# Altium footprint library PcbLib1.PcbLib: 34 footprints (part 1 of 3)
Each footprint in its own frame and in the unit in brackets; x right, y up, seen from the top. Pads: shape width x height; smd on the part's side, far side on the other; paste and mask are expansions set on the pad; w line width, h text height; cw(c..) or ccw(c..) is an arc to the next point about the centre after c.
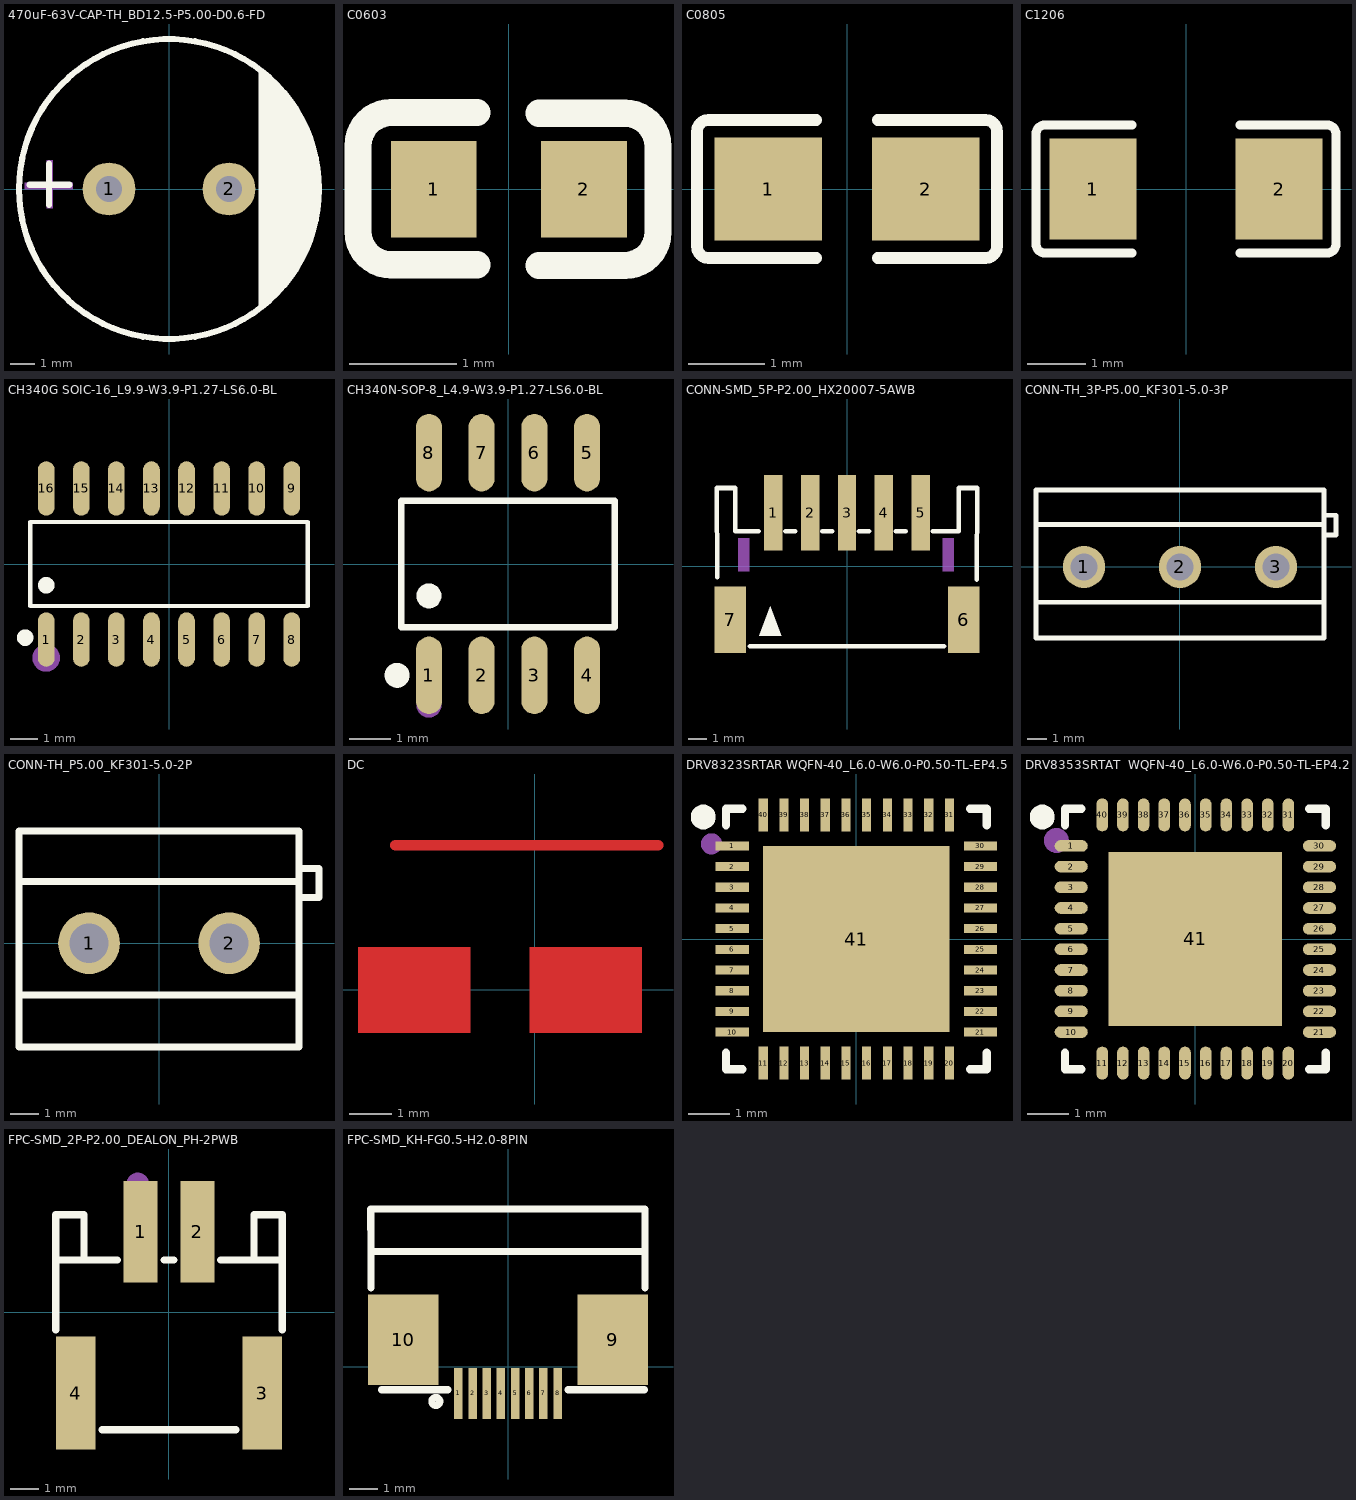
[diagram p0: the footprints below, top view; thin cyan lines are the x and y axes]

## 470uF-63V-CAP-TH_BD12.5-P5.00-D0.6-FD [mm]
pads (2):
  round 2.2 hole 1.1: 1(-2.5,0) 2(2.5,0)
Top Overlay:
  circle w0.254: c0,0 r6.25
  region: 3.75,5 3.75,-5 4.482,-4.268 4.692,-4.058 5.068,-3.6 5.397,-3.107 5.677,-2.584 5.904,-2.036 6.076,-1.468 6.192,-0.887 6.25,-0.297 6.25,0 6.25,0.297 6.192,0.887 6.076,1.468 5.904,2.036 5.677,2.584 5.397,3.107 5.068,3.6 4.692,4.058 4.482,4.268
  lines w0.254: -5.817,0.178 -4.14,0.178 ; -5.004,-0.66 -5.004,1.067
Mechanical 15:
  region: -6,0.25 -4,0.25 -4,0 -6,0
  region: -5.092,-0.811 -5.092,1.189 -4.842,1.189 -4.842,-0.811

## AMS1117-SOT-89_L4.5-W2.5-P1.50-LS4.2-BR [mm]

## C0603 [mm]
pads (2):
  rect 0.8x0.9 smd: 1(-0.7,0) 2(0.7,0)
Top Overlay:
  lines w0.254: -0.296,-0.704 -1.096,-0.704 cw(c-1.096,-0.394) -1.406,-0.394 -1.405,0.406 cw(c-1.096,0.406) -1.096,0.715 -0.296,0.715 ; 0.28,-0.71 1.08,-0.71 ccw(c1.08,-0.4) 1.39,-0.4 1.39,0.4 ccw(c1.08,0.4) 1.08,0.71 0.28,0.71

## C0805 [mm]
pads (2):
  rect 1.41x1.35 smd: 1(-1.03,0) 2(1.03,0)
Top Overlay:
  lines w0.152: -0.401,-0.904 -1.811,-0.904 cw(c-1.811,-0.751) -1.964,-0.751 -1.964,0.751 cw(c-1.811,0.751) -1.811,0.904 -0.401,0.904 ; 0.401,-0.904 1.811,-0.904 ccw(c1.811,-0.751) 1.964,-0.751 1.964,0.751 ccw(c1.811,0.751) 1.811,0.904 0.401,0.904
Top Paste:
  region: 0.475,-0.62 0.475,-0.2 0.92,-0.2 0.92,0.25 0.48,0.25 0.475,0.66 0.525,0.71 1.675,0.71 1.725,0.66 1.725,-0.62 1.675,-0.67 0.525,-0.67
  region: -1.675,-0.62 -1.675,0.66 -1.625,0.71 -0.475,0.71 -0.425,0.66 -0.42,0.25 -0.87,0.25 -0.87,-0.2 -0.43,-0.2 -0.425,-0.62 -0.475,-0.67 -1.625,-0.67

## C1206 [mm]
pads (2):
  rect 1.485x1.728 smd: 1(-1.593,0) 2(1.593,0)
Top Overlay:
  lines w0.152: -0.926,-1.093 -2.411,-1.093 cw(c-2.411,-0.94) -2.564,-0.94 -2.564,0.94 cw(c-2.411,0.94) -2.411,1.093 -0.926,1.093 ; 0.926,-1.093 2.411,-1.093 ccw(c2.411,-0.94) 2.564,-0.94 2.564,0.94 ccw(c2.411,0.94) 2.411,1.093 0.926,1.093
Top Paste:
  region: 0.85,-0.764 0.85,-0.394 0.95,-0.294 1.255,-0.294 1.355,-0.194 1.355,0.194 1.255,0.294 0.95,0.294 0.85,0.394 0.85,0.764 0.95,0.864 2.235,0.864 2.335,0.764 2.335,-0.764 2.235,-0.864 0.95,-0.864
  region: -0.85,-0.764 -0.85,-0.394 -0.95,-0.294 -1.255,-0.294 -1.355,-0.194 -1.355,0.194 -1.255,0.294 -0.95,0.294 -0.85,0.394 -0.85,0.764 -0.95,0.864 -2.235,0.864 -2.335,0.764 -2.335,-0.764 -2.235,-0.864 -0.95,-0.864

## CH340G SOIC-16_L9.9-W3.9-P1.27-LS6.0-BL [mm]
pads (16):
  oval 0.602x1.971 smd: 1(-4.445,-2.736) 2(-3.175,-2.736) 3(-1.905,-2.736) 4(-0.635,-2.736) 5(0.635,-2.736) 6(1.905,-2.736) 7(3.175,-2.736) 8(4.445,-2.736) 9(4.445,2.736) 10(3.175,2.736) 11(1.905,2.736) 12(0.635,2.736) 13(-0.635,2.736) 14(-1.905,2.736) 15(-3.175,2.736) 16(-4.445,2.736)
Top Overlay:
  circle w0.3: c-4.445,-0.769 r0.15
  circle w0.3: c-5.207,-2.667 r0.15
  lines w0.152: -5.026,-1.521 -5.026,1.521 5.026,1.521 5.026,-1.521 -5.026,-1.521
Mechanical 15:
  circle w0.5: c-4.445,-3.4 r0.25

## CH340N-SOP-8_L4.9-W3.9-P1.27-LS6.0-BL [mm]
pads (8):
  oval 0.63x1.865 smd: 1(-1.905,-2.682) 2(-0.635,-2.682) 3(0.635,-2.682) 4(1.905,-2.682) 5(1.905,2.682) 6(0.635,2.682) 7(-0.635,2.682) 8(-1.905,2.682)
Top Overlay:
  circle w0.3: c-1.905,-0.769 r0.15
  circle w0.3: c-2.672,-2.682 r0.15
  lines w0.152: -2.576,-1.521 -2.576,1.521 2.576,1.521 2.576,-1.521 -2.576,-1.521
Mechanical 15:
  circle w0.3: c-1.905,-3.4 r0.15

## CONN-SMD_5P-P2.00_HX20007-5AWB [mm]
pads (7):
  rect 1x4.1 smd: 1(-4,2.9) 2(-2,2.9) 3(0,2.9) 4(2,2.9) 5(4,2.9)
  rect 1.7x3.6 smd: 6(6.35,-2.9) 7(-6.35,-2.9)
Top Overlay:
  region: -4.775,-3.775 -3.575,-3.775 -4.175,-2.175
  lines w0.254: -7.041,-0.601 -7.075,4.25 -6.075,4.25 -6.075,1.9 ; -6.04,1.9 -4.806,1.9 ; -5.275,-4.35 5.275,-4.35 ; -3.344,1.9 -2.806,1.9 ; -1.344,1.9 -0.806,1.9 ; 0.656,1.9 1.194,1.9 ; 2.656,1.9 3.194,1.9 ; 4.656,1.9 6.069,1.905 6.069,4.255 7.07,4.255 ; 7.057,-0.715 7.075,4.25
Mechanical 15:
  region: -5.9,1.525 -5.3,1.525 -5.3,-0.275 -5.9,-0.275 -5.9,-0.175
  region: 5.198,1.522 5.798,1.522 5.798,-0.278 5.198,-0.278 5.198,-0.178

## CONN-TH_3P-P5.00_KF301-5.0-3P [mm]
pads (3):
  round 2.2 hole 1.4: 1(-5,0) 2(0,0) 3(5,0)
Top Overlay:
  lines w0.254: -7.5,-1.845 7.5,-1.845 ; -7.5,2.201 7.5,2.201 ; 7.5,1.651 8.128,1.651 8.128,2.692 7.5,2.692 ; -7.5,-3.7 -7.5,4 7.5,4 7.5,-3.7 -7.5,-3.7

## CONN-TH_P5.00_KF301-5.0-2P [mm]
pads (2):
  round 2.2 hole 1.4: 1(-2.5,0) 2(2.5,0)
Top Overlay:
  lines w0.254: -5,-1.845 5,-1.845 ; -5,2.201 5,2.201 ; 5.08,1.626 5.708,1.626 5.708,2.667 5.08,2.667 ; -5,-3.7 5,-3.7 5,4 -5,4 -5,-3.7

## DC [mm]
Top Layer:
  rectangle: -0.127,-1.016 2.54,1.016
  rectangle: -4.191,-1.016 -1.524,1.016
  lines w0.254: -3.302,3.429 2.921,3.429

## DFN-8_L5.8-W4.9-P1.27-LS6.1-BL [mm]

## DRV8323SRTAR WQFN-40_L6.0-W6.0-P0.50-TL-EP4.5 [mm]
pads (41):
  rect 0.8x0.22 smd: 1(-3,2.25) 2(-3,1.75) 3(-3,1.25) 4(-3,0.75) 5(-3,0.25) 6(-3,-0.25) 7(-3,-0.75) 8(-3,-1.25) 9(-3,-1.75) 10(-3,-2.25) 21(3,-2.25) 22(3,-1.75) 23(3,-1.25) 24(3,-0.75) 25(3,-0.25) 26(3,0.25) 27(3,0.75) 28(3,1.25) 29(3,1.75) 30(3,2.25)
  rect 0.22x0.8 smd: 11(-2.25,-3) 12(-1.75,-3) 13(-1.25,-3) 14(-0.75,-3) 15(-0.25,-3) 16(0.25,-3) 17(0.75,-3) 18(1.25,-3) 19(1.75,-3) 20(2.25,-3) 31(2.25,3) 32(1.75,3) 33(1.25,3) 34(0.75,3) 35(0.25,3) 36(-0.25,3) 37(-0.75,3) 38(-1.25,3) 39(-1.75,3) 40(-2.25,3)
  rect 4.5x4.5 smd: 41(0,0)
Top Overlay:
  lines w0.2: -3.15,-2.75 -3.15,-3.15 -2.75,-3.15 ; -3.15,2.75 -3.15,3.15 -2.75,3.15 ; 2.75,-3.15 3.15,-3.15 3.15,-2.75 ; 2.75,3.15 3.15,3.15 3.15,2.75
  lines w0.3: -3.551,2.946 cw(c-3.701,2.948) -3.551,2.949
Mechanical 15:
  circle w0.254: c-3.5,2.3 r0.127

## DRV8353SRTAT  WQFN-40_L6.0-W6.0-P0.50-TL-EP4.2 [mm]
pads (41):
  oval 0.8x0.28 smd: 1(-3,2.25) 2(-3,1.75) 3(-3,1.25) 4(-3,0.75) 5(-3,0.25) 6(-3,-0.25) 7(-3,-0.75) 8(-3,-1.25) 9(-3,-1.75) 10(-3,-2.25) 21(3,-2.25) 22(3,-1.75) 23(3,-1.25) 24(3,-0.75) 25(3,-0.25) 26(3,0.25) 27(3,0.75) 28(3,1.25) 29(3,1.75) 30(3,2.25)
  oval 0.28x0.8 smd: 11(-2.25,-3) 12(-1.75,-3) 13(-1.25,-3) 14(-0.75,-3) 15(-0.25,-3) 16(0.25,-3) 17(0.75,-3) 18(1.25,-3) 19(1.75,-3) 20(2.25,-3) 31(2.25,3) 32(1.75,3) 33(1.25,3) 34(0.75,3) 35(0.25,3) 36(-0.25,3) 37(-0.75,3) 38(-1.25,3) 39(-1.75,3) 40(-2.25,3)
  rect 4.2x4.2 smd: 41(0,0)
Top Overlay:
  lines w0.2: -3.15,-2.75 -3.15,-3.15 -2.75,-3.15 ; -3.15,2.75 -3.15,3.15 -2.75,3.15 ; 2.75,-3.15 3.15,-3.15 3.15,-2.75 ; 2.75,3.15 3.15,3.15 3.15,2.75
  lines w0.3: -3.551,2.946 cw(c-3.701,2.948) -3.551,2.949
Mechanical 15:
  circle w0.3: c-3.359,2.381 r0.15

## FPC-SMD_2P-P2.00_DEALON_PH-2PWB [mm]
pads (4):
  rect 1.2x3.6 smd: 1(-1,2.85) 2(1,2.85)
  rect 1.4x4 smd: 3(3.3,-2.85) 4(-3.3,-2.85)
Top Overlay:
  lines w0.254: -4,-0.619 -4,1.85 ; -3,1.85 -3,3.45 -4,3.45 -4,1.85 ; -2.369,-4.15 2.369,-4.15 ; -1.831,1.85 -4,1.85 ; -0.169,1.85 0.169,1.85 ; 1.831,1.85 4,1.85 ; 4,-0.619 4,1.85 ; 3,3.45 3,1.85 3,3.45 ; 3,3.45 4,3.45 ; 3,3.45 4,3.45 ; 4,1.85 4,3.45
Mechanical 15:
  circle w0.4: c-1.105,4.536 r0.2

## FPC-SMD_KH-FG0.5-H2.0-8PIN [mm]
pads (10):
  rect 0.3x1.8 smd: 1(-1.75,-0.95) 2(-1.25,-0.95) 3(-0.75,-0.95) 4(-0.25,-0.95) 5(0.25,-0.95) 6(0.75,-0.95) 7(1.25,-0.95) 8(1.75,-0.95)
  rect 2.5x3.2 smd: 9(3.7,0.95) 10(-3.7,0.95)
Top Overlay:
  circle w0.254: c-2.55,-1.23 r0.139
  lines w0.254: -4.842,2.781 -4.842,4.064 ; -4.46,-0.82 -2.131,-0.82 ; 2.131,-0.82 4.82,-0.82 ; 4.841,5.565 -4.85,5.56 -4.842,4.064 ; 4.842,2.781 4.842,4.064 ; 4.842,5.564 4.842,4.064 ; -4.842,4.064 4.842,4.064